# EAGLE library part 219-8MST (library 219-8MST)
DIP Switches / SIP Switches SPST 8 switch sections Source: Datasheet <https://www.ctscorp.com/wp-content/uploads/219.pdf>
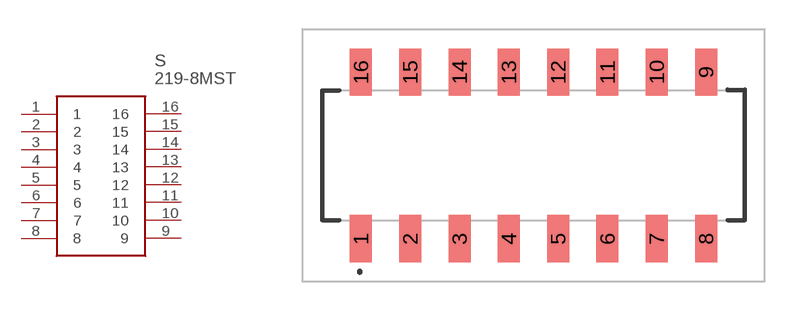
[diagram p0: symbol with the pads of 2198MST; footprint 2198MST]

Designator prefix S

## 219-8MST (Description: DIP Switches / SIP Switches SPST 8 switch sections; Height: 4.5mm; Manufacturer_Name: CTS; Manufacturer_Part_Number: 219-8MST; Mouser_Part_Number: 774-2198MST; Mouser_Price-Stock: https://www.mouser.co.uk/ProductDetail/CTS-Electronic-Components/219-8MST/?qs=qNzHFtQhdJ%252B8jOs%2FDCRqeg%3D%3D)  [2198MST]
1  1
2  2
3  3
4  4
5  5
6  6
7  7
8  8
9  9
10  10
11  11
12  12
13  13
14  14
15  15
16  16

## Footprint 2198MST (pad centres in mm)
219-8MST-3
smd 1.13 x 2.44: 1 -8.89,-4.3; 2 -6.35,-4.3; 3 -3.81,-4.3; 4 -1.27,-4.3; 5 1.27,-4.3; 6 3.81,-4.3; 7 6.35,-4.3; 8 8.89,-4.3; 9 8.89,4.3; 10 6.35,4.3; 11 3.81,4.3; 12 1.27,4.3; 13 -1.27,4.3; 14 -3.81,4.3; 15 -6.35,4.3; 16 -8.89,4.3